# EAGLE library part AS7341 (library chips)
11-Channel Spectral Sensor Frontend
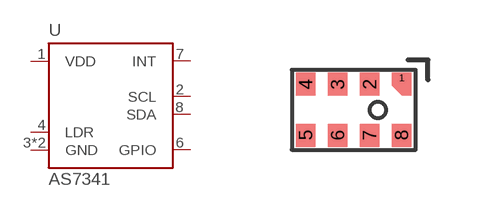
[diagram p99: symbol with the pads of OLGA-8; footprint OLGA-8]

Designator prefix U

## AS7341 (DIGIKEY: AS7341-DLGTCT-ND; MANUFACTURER: AMS; MPN: AS7341)  [OLGA-8]
1  VDD
2  SCL
3  GND
4  LDR
5  GND
6  GPIO
7  INT
8  SDA

## Footprint OLGA-8 (pad centres in mm)
8-PIN smd package for AS7341 color spectrum sensor
smd 0.25 x 0.25: 1 0.591,0.8
smd 0.488 x 0.575: 2 -0.209,0.638; 3 -1.009,0.638; 4 -1.809,0.638; 5 -1.809,-0.638; 6 -1.009,-0.638; 7 -0.209,-0.638; 8 0.591,-0.638